# Altium schematic symbol library PE-68386NLT.SchLib: 1 symbol
Pins are listed as number, name and electrical type; pins without a type are passive.

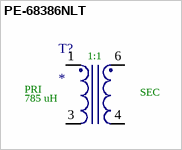
[diagram p0: symbol PE-68386NLT]

## PE-68386NLT
designator T?
pins: 1, 3, 4, 6
text: 1:1; PRI; SEC; 785 uH